# Altium footprint library STM32H7.PcbLib: 1 footprints
Each footprint in its own frame and in the unit in brackets; x right, y up, seen from the top. Pads: shape width x height; smd on the part's side, far side on the other; paste and mask are expansions set on the pad; w line width, h text height; cw(c..) or ccw(c..) is an arc to the next point about the centre after c.
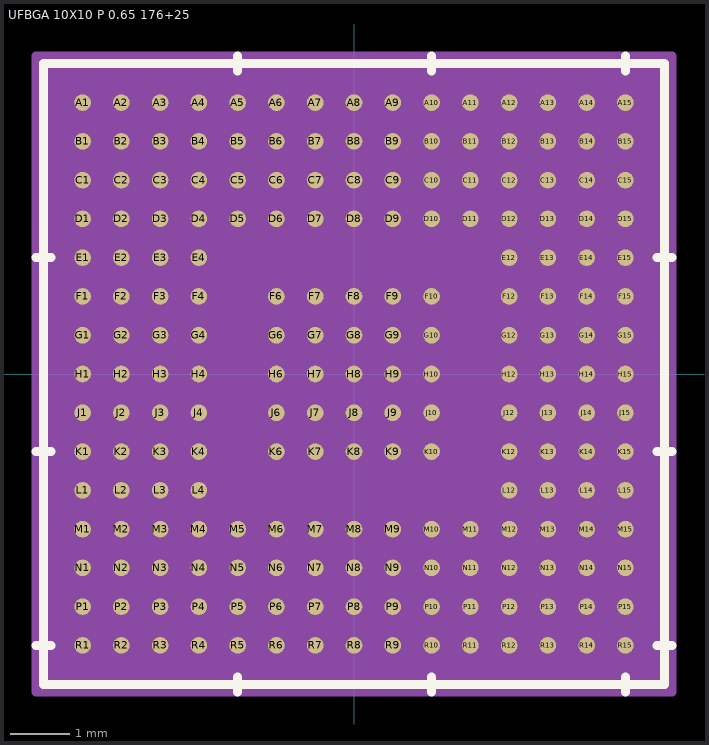
[diagram p0: the footprint, top view; thin cyan lines are the x and y axes]

## UFBGA 10X10 P 0.65 176+25 [mil]
pads (201):
  round 11 smd: A1(-179.13,179.13) A2(-153.54,179.13) A3(-127.95,179.13) A4(-102.36,179.13) A5(-76.77,179.13) A6(-51.18,179.13) A7(-25.59,179.13) A8(0,179.13) A9(25.59,179.13) A10(51.18,179.13) A11(76.77,179.13) A12(102.36,179.13) A13(127.95,179.13) A14(153.54,179.13) A15(179.13,179.13) B1(-179.13,153.54) B2(-153.54,153.54) B3(-127.95,153.54) B4(-102.36,153.54) B5(-76.77,153.54) B6(-51.18,153.54) B7(-25.59,153.54) B8(0,153.54) B9(25.59,153.54) B10(51.18,153.54) B11(76.77,153.54) B12(102.36,153.54) B13(127.95,153.54) B14(153.54,153.54) B15(179.13,153.54) C1(-179.13,127.95) C2(-153.54,127.95) C3(-127.95,127.95) C4(-102.36,127.95) C5(-76.77,127.95) C6(-51.18,127.95) C7(-25.59,127.95) C8(0,127.95) C9(25.59,127.95) C10(51.18,127.95) C11(76.77,127.95) C12(102.36,127.95) C13(127.95,127.95) C14(153.54,127.95) C15(179.13,127.95) D1(-179.13,102.36) D2(-153.54,102.36) D3(-127.95,102.36) D4(-102.36,102.36) D5(-76.77,102.36) D6(-51.18,102.36) D7(-25.59,102.36) D8(0,102.36) D9(25.59,102.36) D10(51.18,102.36) D11(76.77,102.36) D12(102.36,102.36) D13(127.95,102.36) D14(153.54,102.36) D15(179.13,102.36) E1(-179.13,76.77) E2(-153.54,76.77) E3(-127.95,76.77) E4(-102.36,76.77) E12(102.36,76.77) E13(127.95,76.77) E14(153.54,76.77) E15(179.13,76.77) F1(-179.13,51.18) F2(-153.54,51.18) F3(-127.95,51.18) F4(-102.36,51.18) F6(-51.18,51.18) F7(-25.59,51.18) F8(0,51.18) F9(25.59,51.18) F10(51.18,51.18) F12(102.36,51.18) F13(127.95,51.18) F14(153.54,51.18) F15(179.13,51.18) G1(-179.13,25.59) G2(-153.54,25.59) G3(-127.95,25.59) G4(-102.36,25.59) G6(-51.18,25.59) G7(-25.59,25.59) G8(0,25.59) G9(25.59,25.59) G10(51.18,25.59) G12(102.36,25.59) G13(127.95,25.59) G14(153.54,25.59) G15(179.13,25.59) H1(-179.13,0) H2(-153.54,0) H3(-127.95,0) H4(-102.36,0) H6(-51.18,0) H7(-25.59,0) H8(0,0) H9(25.59,0) H10(51.18,0) H12(102.36,0) H13(127.95,0) H14(153.54,0) H15(179.13,0) J1(-179.13,-25.59) J2(-153.54,-25.59) J3(-127.95,-25.59) J4(-102.36,-25.59) J6(-51.18,-25.59) J7(-25.59,-25.59) J8(0,-25.59) J9(25.59,-25.59) J10(51.18,-25.59) J12(102.36,-25.59) J13(127.95,-25.59) J14(153.54,-25.59) J15(179.13,-25.59) K1(-179.13,-51.18) K2(-153.54,-51.18) K3(-127.95,-51.18) K4(-102.36,-51.18) K6(-51.18,-51.18) K7(-25.59,-51.18) K8(0,-51.18) K9(25.59,-51.18) K10(51.18,-51.18) K12(102.36,-51.18) K13(127.95,-51.18) K14(153.54,-51.18) K15(179.13,-51.18) L1(-179.13,-76.77) L2(-153.54,-76.77) L3(-127.95,-76.77) L4(-102.36,-76.77) L12(102.36,-76.77) L13(127.95,-76.77) L14(153.54,-76.77) L15(179.13,-76.77) M1(-179.13,-102.36) M2(-153.54,-102.36) M3(-127.95,-102.36) M4(-102.36,-102.36) M5(-76.77,-102.36) M6(-51.18,-102.36) M7(-25.59,-102.36) M8(0,-102.36) M9(25.59,-102.36) M10(51.18,-102.36) M11(76.77,-102.36) M12(102.36,-102.36) M13(127.95,-102.36) M14(153.54,-102.36) M15(179.13,-102.36) N1(-179.13,-127.95) N2(-153.54,-127.95) N3(-127.95,-127.95) N4(-102.36,-127.95) N5(-76.77,-127.95) N6(-51.18,-127.95) N7(-25.59,-127.95) N8(0,-127.95) N9(25.59,-127.95) N10(51.18,-127.95) N11(76.77,-127.95) N12(102.36,-127.95) N13(127.95,-127.95) N14(153.54,-127.95) N15(179.13,-127.95) P1(-179.13,-153.54) P2(-153.54,-153.54) P3(-127.95,-153.54) P4(-102.36,-153.54) P5(-76.77,-153.54) P6(-51.18,-153.54) P7(-25.59,-153.54) P8(0,-153.54) P9(25.59,-153.54) P10(51.18,-153.54) P11(76.77,-153.54) P12(102.36,-153.54) P13(127.95,-153.54) P14(153.54,-153.54) P15(179.13,-153.54) R1(-179.13,-179.13) R2(-153.54,-179.13) R3(-127.95,-179.13) R4(-102.36,-179.13) R5(-76.77,-179.13) R6(-51.18,-179.13) R7(-25.59,-179.13) R8(0,-179.13) R9(25.59,-179.13) R10(51.18,-179.13) R11(76.77,-179.13) R12(102.36,-179.13) R13(127.95,-179.13) R14(153.54,-179.13) R15(179.13,-179.13)
Top Overlay:
  lines w6: -210,-179.13 -200,-179.13 ; -210,-51.18 -200,-51.18 ; -210,76.77 -200,76.77 ; -76.77,-210 -76.77,-200 ; -76.77,200 -76.77,210 ; 51.18,-210 51.18,-200 ; 51.18,200 51.18,210 ; 179.13,-210 179.13,-200 ; 179.13,200 179.13,210 ; 200,-179.13 210,-179.13 ; 200,-51.18 210,-51.18 ; 200,76.77 210,76.77 ; -205,-205 -205,205 205,205 205,-205 -205,-205
Mechanical 15:
  region: 210,-210 -210,-210 -210,210 210,210
  lines w6: -210,-210 210,-210 210,210 -210,210 -210,-210
Multi-Layer:
  text "Copyright (C) 2016 Accelerated Designs. All rights reserved" at 0,0 h1
3D body "UFBGA 10X10 P 0..stp": height 24.1, standoff 0, extent -200,-200 200,200